# Altium schematic symbol library Schlib1.SchLib: 1 symbol
Pins are listed as number, name and electrical type; pins without a type are passive.

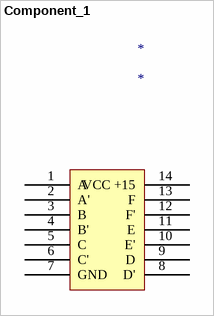
[diagram p0: symbol Component_1]

## Component_1
designator *
footprint SOIC127P600X175-14N
pins: 1 A, 2 A', 3 B, 4 B', 5 C, 6 C', 7 GND, 8 D', 9 D, 10 E', 11 E, 12 F', 13 F, 14 VCC +15